# Altium schematic symbol library BSS84AKW.Schlib: 1 symbol
Pins are listed as number, name and electrical type; pins without a type are passive.

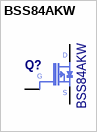
[diagram p0: symbol BSS84AKW]

## BSS84AKW
designator Q?
pins: 1 G, 2 S, 3 D